# EAGLE library part 112J-TDAR-R01 (library 112J-TDAR-R01)
Check availability <https://pricing.snapeda.com/parts/112J-TDAR-R01/Attend/view-part?ref=eda>
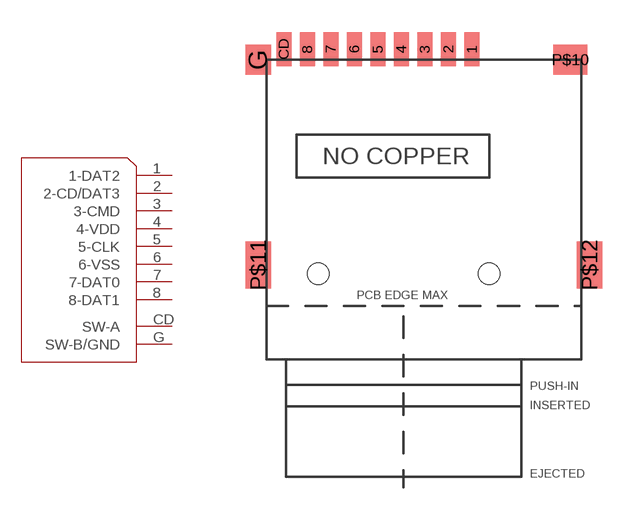
[diagram p0: symbol with the pads of 112J-TDAR-R01; footprint 112J-TDAR-R01]

Designator prefix K

## 112J-TDAR-R01 (Availability: In Stock; Check_prices: https://www.snapeda.com/parts/112J-TDAR-R01/Attend/view-part/?ref=eda; Description: 9 (8 + 1) Position Card Connector Secure Digital - microSD™ Surface Mount, Right Angle Gold; MF: Attend; MP: 112J-TDAR-R01; Package: None; Price: None; SnapEDA_Link: https://www.snapeda.com/parts/112J-TDAR-R01/Attend/view-part/?ref=snap)  [112J-TDAR-R01]
1  1-DAT2
2  2-CD/DAT3
3  3-CMD
4  4-VDD
5  5-CLK
6  6-VSS
7  7-DAT0
8  8-DAT1
CD  SW-A
G  SW-B/GND

## Footprint 112J-TDAR-R01 (pad centres in mm)
smd 0.7 x 1.6: 1 7.2,10.5; 2 6.1,10.5; 3 5,10.5; 4 3.9,10.5; 5 2.8,10.5; 6 1.7,10.5; 7 0.6,10.5; 8 -0.5,10.5; CD -1.6,10.5
smd 1.2 x 1.4: G -2.8,10
smd 1.6 x 1.4: P$10 11.8,10
smd 1.2 x 2.2: P$11 -2.8,0.4; P$12 12.7,0.4
hole 1 at 0,0
hole 1 at 8,0